# Altium schematic symbol library Optoelectronics.SchLib: 2 symbols
Pins are listed as number, name and electrical type; pins without a type are passive.

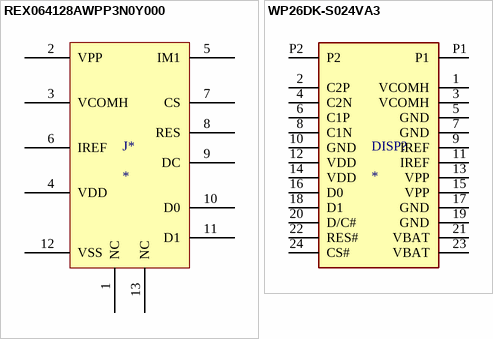
[diagram p0: symbols REX064128AWPP3N0Y000 to WP26DK-S024VA3]

## REX064128AWPP3N0Y000
designator J*
OLED 64x128; ComponentLink1Description: New link; ComponentLink1URL: https://www.tme.eu/pl/details/rex064128awpp3n0y0/wyswietlacze-oled-graficzne/raystar-optronics/rex064128awpp3n0y000/
footprint SOP26
pins: 1 NC, 2 VPP, 3 VCOMH, 4 VDD, 5 IM1, 6 IREF, 7 CS, 8 RES, 9 DC, 10 D0, 11 D1, 12 VSS, 13 NC

## WP26DK-S024VA3
designator DISP?
footprint WP26DK-S024VA3
pins: 1 VCOMH, 2 C2P, 3 VCOMH, 4 C2N, 5 GND, 6 C1P, 7 GND, 8 C1N, 9 IREF, 10 GND, 11 IREF, 12 VDD, 13 VPP, 14 VDD, 15 VPP, 16 D0, 17 GND, 18 D1, 19 GND, 20 D/C#, 21 VBAT, 22 RES#, 23 VBAT, 24 CS#, P1 (power), P2 (power)